# EAGLE library part TS3USB30E (library mibe)
ESD-Protected, High-Speed USB 2.0 (480-Mbps) 1:2 Multiplexer/Demultiplexer Switch With Single Enable The TS3USB30E is a high-bandwidth 1:2 switch specially designed for the switching of high-speed USB 2.0 signals in handset and consumer applications, such as cell phones, digital cameras, and notebooks with hubs or controllers with limited USB I/Os. The wide bandwidth (900 MHz) of this switch allows signals to pass with minimum edge and phase distortion. The device multiplexes differential outputs from a USB host device to one of two corresponding outputs, or from two different hosts to one corresponding output. The switch is bidirectional and offers little or no attenuation of the high-speed signals at the outputs. It is designed for low bit-to-bit skew and high channel-to-channel noise isolation, and is compatible with various standards, such as high-speed USB 2.0 (480 Mbps).
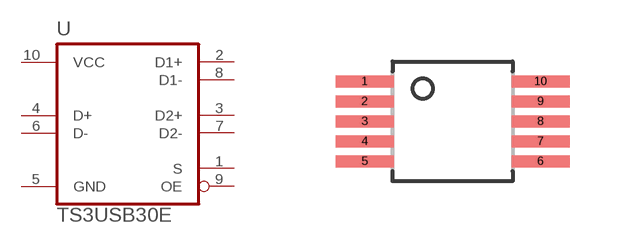
[diagram p5: symbol with the pads of VSSOP-10; footprint VSSOP-10]

Designator prefix U

## TS3USB30EDGSR  [VSSOP-10]
1  S  in
2  D1+
3  D2+
4  D+
5  GND  pwr
6  D-
7  D2-
8  D1-
9  OE  in
10  VCC  pwr

## Footprint VSSOP-10 (pad centres in mm)
smd 1.45 x 0.3: 1 -2.2,1; 2 -2.2,0.5; 3 -2.2,0; 4 -2.2,-0.5; 5 -2.2,-1; 6 2.2,-1; 7 2.2,-0.5; 8 2.2,0; 9 2.2,0.5; 10 2.2,1